# EAGLE library part TUSB9260 (library geusebio)
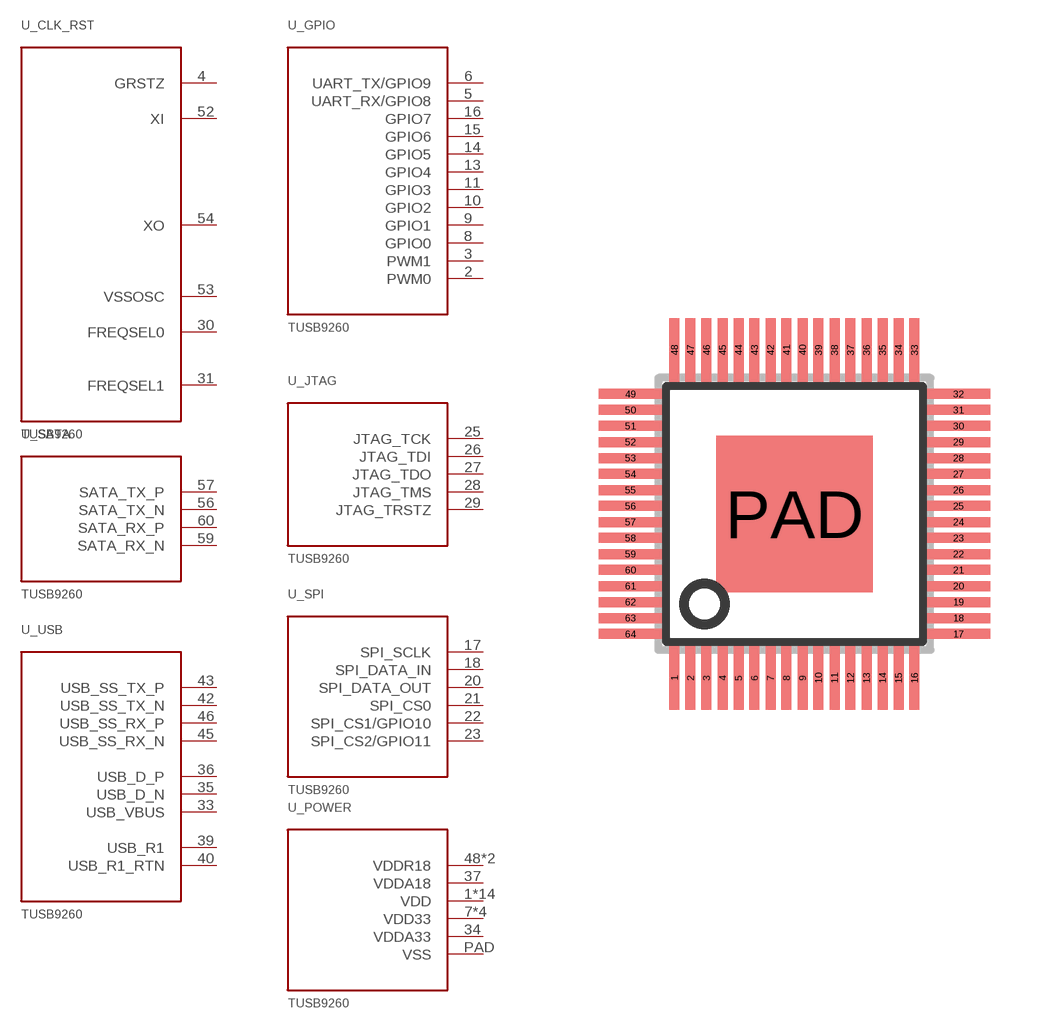
[diagram p18: symbol with the pads of SQFP-S-7X7-64; footprint SQFP-S-7X7-64]

Designator prefix -; gates _CLK_RST=TUSB9260_CLOCK_AND_RESET _SATA=TUSB9260_SATA _USB=TUSB9260_USB _GPIO=TUSB9260_GPIO _JTAG=TUSB9260_JTAG _SPI=TUSB9260_SPI _POWER=TUSB9260_POWER

## TUSB9260  [SQFP-S-7X7-64]
1  _POWER:VDD
2  _GPIO:PWM0
3  _GPIO:PWM1
4  _CLK_RST:GRSTZ
5  _GPIO:UART_RX/GPIO8
6  _GPIO:UART_TX/GPIO9
7  _POWER:VDD33
8  _GPIO:GPIO0
9  _GPIO:GPIO1
10  _GPIO:GPIO2
11  _GPIO:GPIO3
12  _POWER:VDD
13  _GPIO:GPIO4
14  _GPIO:GPIO5
15  _GPIO:GPIO6
16  _GPIO:GPIO7
17  _SPI:SPI_SCLK
18  _SPI:SPI_DATA_IN
19  _POWER:VDD
20  _SPI:SPI_DATA_OUT
21  _SPI:SPI_CS0
22  _SPI:SPI_CS1/GPIO10
23  _SPI:SPI_CS2/GPIO11
24  _POWER:VDD33
25  _JTAG:JTAG_TCK
26  _JTAG:JTAG_TDI
27  _JTAG:JTAG_TDO
28  _JTAG:JTAG_TMS
29  _JTAG:JTAG_TRSTZ
30  _CLK_RST:FREQSEL0
31  _CLK_RST:FREQSEL1
32  _POWER:VDD
33  _USB:USB_VBUS
34  _POWER:VDDA33
35  _USB:USB_D_N
36  _USB:USB_D_P
37  _POWER:VDDA18
38  _POWER:VDD
39  _USB:USB_R1
40  _USB:USB_R1_RTN
41  _POWER:VDD
42  _USB:USB_SS_TX_N
43  _USB:USB_SS_TX_P
44  _POWER:VDD
45  _USB:USB_SS_RX_N
46  _USB:USB_SS_RX_P
47  _POWER:VDD
48  _POWER:VDDR18
49  _POWER:VDD
50  _POWER:VDD33
51  _POWER:VDD33
52  _CLK_RST:XI
53  _CLK_RST:VSSOSC
54  _CLK_RST:XO
55  _POWER:VDD
56  _SATA:SATA_TX_N
57  _SATA:SATA_TX_P
58  _POWER:VDD
59  _SATA:SATA_RX_N
60  _SATA:SATA_RX_P
61  _POWER:VDD
62  _POWER:VDDR18
63  _POWER:VDD
64  _POWER:VDD
PAD  _POWER:VSS

## Footprint SQFP-S-7X7-64 (pad centres in mm)
QFP64 shrink quad flat pack, square
smd 0.25 x 1.6: 1 -3,-4.1; 2 -2.6,-4.1; 3 -2.2,-4.1; 4 -1.8,-4.1; 5 -1.4,-4.1; 6 -1,-4.1; 7 -0.6,-4.1; 8 -0.2,-4.1; 9 0.2,-4.1; 10 0.6,-4.1; 11 1,-4.1; 12 1.4,-4.1; 13 1.8,-4.1; 14 2.2,-4.1; 15 2.6,-4.1; 16 3,-4.1; 33 3,4.1; 34 2.6,4.1; 35 2.2,4.1; 36 1.8,4.1; 37 1.4,4.1; 38 1,4.1; 39 0.6,4.1; 40 0.2,4.1; 41 -0.2,4.1; 42 -0.6,4.1; 43 -1,4.1; 44 -1.4,4.1; 45 -1.8,4.1; 46 -2.2,4.1; 47 -2.6,4.1; 48 -3,4.1
smd 1.6 x 0.25: 17 4.1,-3; 18 4.1,-2.6; 19 4.1,-2.2; 20 4.1,-1.8; 21 4.1,-1.4; 22 4.1,-1; 23 4.1,-0.6; 24 4.1,-0.2; 25 4.1,0.2; 26 4.1,0.6; 27 4.1,1; 28 4.1,1.4; 29 4.1,1.8; 30 4.1,2.2; 31 4.1,2.6; 32 4.1,3; 49 -4.1,3; 50 -4.1,2.6; 51 -4.1,2.2; 52 -4.1,1.8; 53 -4.1,1.4; 54 -4.1,1; 55 -4.1,0.6; 56 -4.1,0.2; 57 -4.1,-0.2; 58 -4.1,-0.6; 59 -4.1,-1; 60 -4.1,-1.4; 61 -4.1,-1.8; 62 -4.1,-2.2; 63 -4.1,-2.6; 64 -4.1,-3
smd 3.9 x 3.9: PAD 0,0